# Altium footprint library RF.PcbLib: 1 footprints
Each footprint in its own frame and in the unit in brackets; x right, y up, seen from the top. Pads: shape width x height; smd on the part's side, far side on the other; paste and mask are expansions set on the pad; w line width, h text height; cw(c..) or ccw(c..) is an arc to the next point about the centre after c.
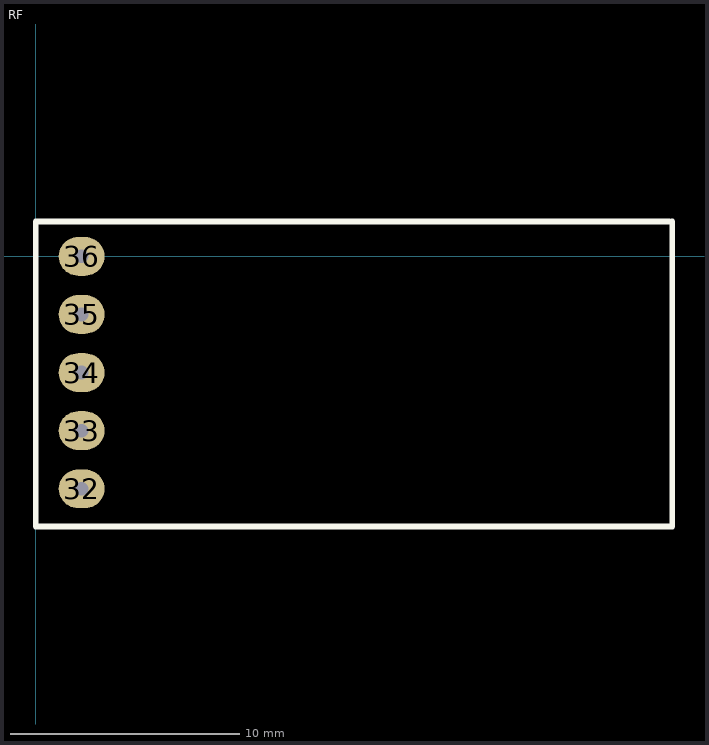
[diagram p0: the footprint, top view; thin cyan lines are the x and y axes]

## RF [mm]
pads (5):
  oval 2x1.7 hole 0.6: 32(2,-10.16) 33(2,-7.62) 34(2,-5.08) 35(2,-2.54) 36(2,0)
Top Overlay:
  lines w0.254: 27.686,1.524 0,1.524 0,-11.811 27.813,-11.811 27.813,1.524
3D body "HC-12 SI4463 WIRELESS SERIAL MODULE.STEP": height 25.9, standoff 0, extent 0.855,-11.73 28.553,1.57